# Altium schematic symbol library SCH - MCU - NUVOTON - NUVOTON M253ZE3AE.SchLib: 1 symbol
Pins are listed as number, name and electrical type; pins without a type are passive.

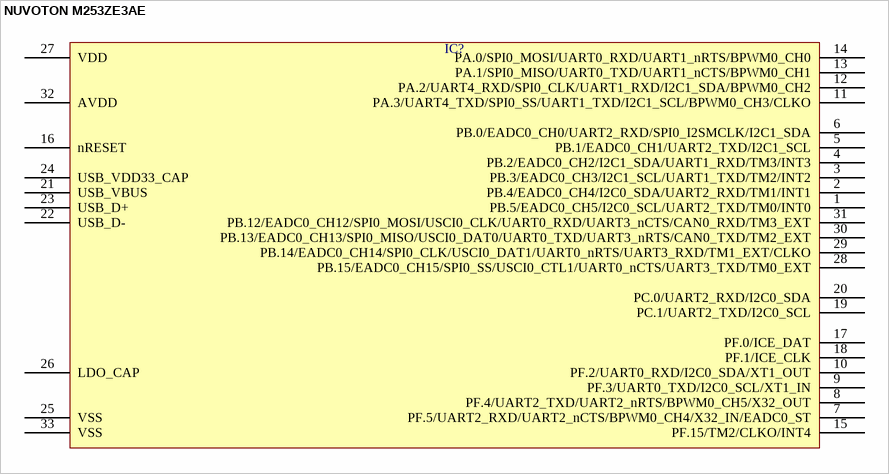
[diagram p0: symbol NUVOTON M253ZE3AE]

## NUVOTON M253ZE3AE
designator IC?  (value not drawn)
pins: 1 PB.5/EADC0_CH5/I2C0_SCL/UART2_TXD/TM0/INT0, 2 PB.4/EADC0_CH4/I2C0_SDA/UART2_RXD/TM1/INT1, 3 PB.3/EADC0_CH3/I2C1_SCL/UART1_TXD/TM2/INT2, 4 PB.2/EADC0_CH2/I2C1_SDA/UART1_RXD/TM3/INT3, 5 PB.1/EADC0_CH1/UART2_TXD/I2C1_SCL, 6 PB.0/EADC0_CH0/UART2_RXD/SPI0_I2SMCLK/I2C1_SDA, 7 PF.5/UART2_RXD/UART2_nCTS/BPWM0_CH4/X32_IN/EADC0_ST, 8 PF.4/UART2_TXD/UART2_nRTS/BPWM0_CH5/X32_OUT, 9 PF.3/UART0_TXD/I2C0_SCL/XT1_IN, 10 PF.2/UART0_RXD/I2C0_SDA/XT1_OUT, 11 PA.3/UART4_TXD/SPI0_SS/UART1_TXD/I2C1_SCL/BPWM0_CH3/CLKO, 12 PA.2/UART4_RXD/SPI0_CLK/UART1_RXD/I2C1_SDA/BPWM0_CH2, 13 PA.1/SPI0_MISO/UART0_TXD/UART1_nCTS/BPWM0_CH1, 14 PA.0/SPI0_MOSI/UART0_RXD/UART1_nRTS/BPWM0_CH0, 15 PF.15/TM2/CLKO/INT4, 16 nRESET, 17 PF.0/ICE_DAT, 18 PF.1/ICE_CLK, 19 PC.1/UART2_TXD/I2C0_SCL, 20 PC.0/UART2_RXD/I2C0_SDA, 21 USB_VBUS, 22 USB_D-, 23 USB_D+, 24 USB_VDD33_CAP, 25 VSS, 26 LDO_CAP, 27 VDD, 28 PB.15/EADC0_CH15/SPI0_SS/USCI0_CTL1/UART0_nCTS/UART3_TXD/TM0_EXT, 29 PB.14/EADC0_CH14/SPI0_CLK/USCI0_DAT1/UART0_nRTS/UART3_RXD/TM1_EXT/CLKO, 30 PB.13/EADC0_CH13/SPI0_MISO/USCI0_DAT0/UART0_TXD/UART3_nRTS/CAN0_TXD/TM2_EXT, 31 PB.12/EADC0_CH12/SPI0_MOSI/USCI0_CLK/UART0_RXD/UART3_nCTS/CAN0_RXD/TM3_EXT, 32 AVDD, 33 VSS